# EAGLE library part AVR-ISP6 (library SmallRoomLabs)
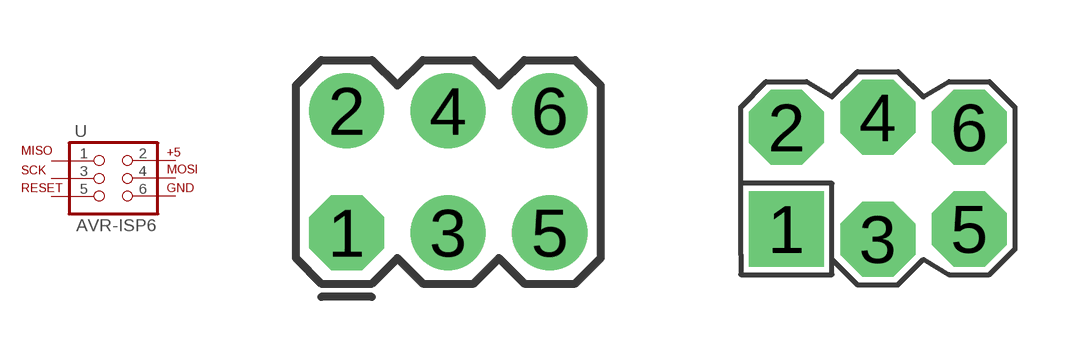
[diagram p6: symbol with the pads of HEADER-2X3-EXTENDED; footprints HEADER-2X3-EXTENDED, 2X3_LOCK]

Designator prefix -

## AVR-ISP6AVRISP-EXTENED  [HEADER-2X3-EXTENDED]
1  MISO  pas
2  V+  pas
3  SCK  pas
4  MOSI  pas
5  RESET  pas
6  GND  pas

## AVR-ISP6_2X3-LOCK  [2X3_LOCK]
Pads as for HEADER-2X3-EXTENDED

## Footprint HEADER-2X3-EXTENDED (pad centres in mm)
drill 1.016 pad 1.88 octagon: 1 -2.54,-1.27
drill 1.016 pad 1.88 round: 2 -2.54,1.778; 3 0,-1.27; 4 0,1.778; 5 2.54,-1.27; 6 2.54,1.778

## Footprint 2X3_LOCK (pad centres in mm)
drill 1.016 pad 1.88 square: 1 -2.286,-1.27
drill 1.016 pad 1.88 octagon: 2 -2.286,1.27; 3 0,-1.524; 4 0,1.524; 5 2.286,-1.27; 6 2.286,1.27